# EAGLE library part S100_MALE (library s100)
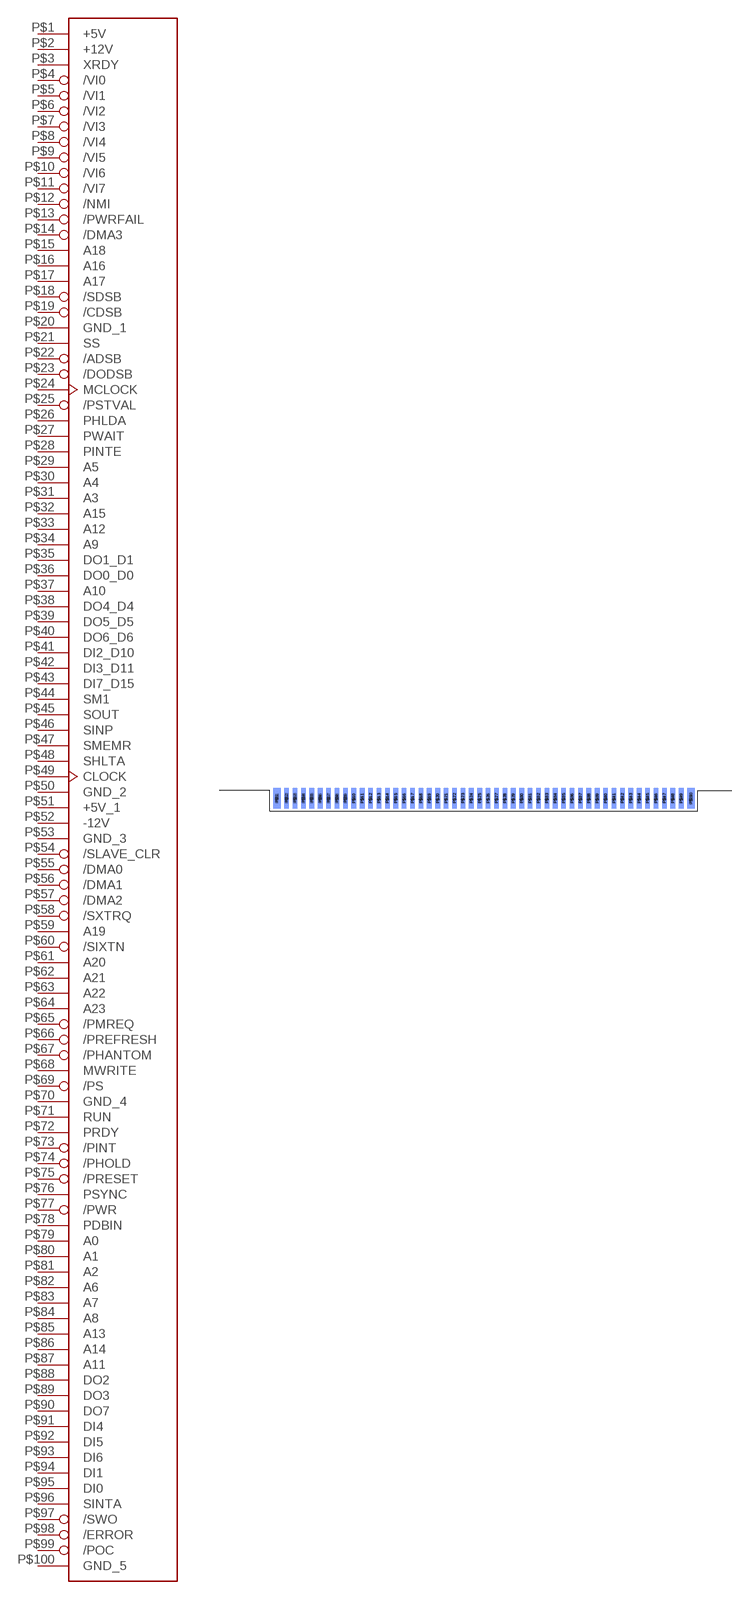
[diagram p0: symbol with the pads of S100_MALE; footprint S100_MALE]

Designator prefix -

## S100_MALE  [S100_MALE]
P$1  +5V  pwr
P$2  +12V  pwr
P$3  XRDY
P$4  /VI0
P$5  /VI1
P$6  /VI2
P$7  /VI3
P$8  /VI4
P$9  /VI5
P$10  /VI6
P$11  /VI7
P$12  /NMI
P$13  /PWRFAIL
P$14  /DMA3
P$15  A18
P$16  A16
P$17  A17
P$18  /SDSB
P$19  /CDSB
P$20  GND_1  pwr
P$21  SS
P$22  /ADSB
P$23  /DODSB
P$24  MCLOCK
P$25  /PSTVAL
P$26  PHLDA
P$27  PWAIT
P$28  PINTE
P$29  A5
P$30  A4
P$31  A3
P$32  A15
P$33  A12
P$34  A9
P$35  DO1_D1
P$36  DO0_D0
P$37  A10
P$38  DO4_D4
P$39  DO5_D5
P$40  DO6_D6
P$41  DI2_D10
P$42  DI3_D11
P$43  DI7_D15
P$44  SM1
P$45  SOUT
P$46  SINP
P$47  SMEMR
P$48  SHLTA
P$49  CLOCK
P$50  GND_2  pwr
P$51  +5V_1  pwr
P$52  -12V  pwr
P$53  GND_3  pwr
P$54  /SLAVE_CLR
P$55  /DMA0
P$56  /DMA1
P$57  /DMA2
P$58  /SXTRQ
P$59  A19
P$60  /SIXTN
P$61  A20
P$62  A21
P$63  A22
P$64  A23
P$65  /PMREQ
P$66  /PREFRESH
P$67  /PHANTOM
P$68  MWRITE
P$69  /PS
P$70  GND_4  pwr
P$71  RUN
P$72  PRDY
P$73  /PINT
P$74  /PHOLD
P$75  /PRESET
P$76  PSYNC
P$77  /PWR
P$78  PDBIN
P$79  A0
P$80  A1
P$81  A2
P$82  A6
P$83  A7
P$84  A8
P$85  A13
P$86  A14
P$87  A11
P$88  DO2
P$89  DO3
P$90  DO7
P$91  DI4
P$92  DI5
P$93  DI6
P$94  DI1
P$95  DI0
P$96  SINTA
P$97  /SWO
P$98  /ERROR
P$99  /POC
P$100  GND_5  pwr

## Footprint S100_MALE (pad centres in mm)
smd 2.794 x 7.62: P$1 -0.508,0; P$50 156.083,0
smd 1.778 x 7.62: P$2 3.175,0; P$3 6.35,0; P$4 9.525,0; P$5 12.7,0; P$6 15.875,0; P$7 19.05,0; P$8 22.225,0; P$9 25.4,0; P$10 28.575,0; P$11 31.75,0; P$12 34.925,0; P$13 38.1,0; P$14 41.275,0; P$15 44.45,0; P$16 47.625,0; P$17 50.8,0; P$18 53.975,0; P$19 57.15,0; P$20 60.325,0; P$21 63.5,0; P$22 66.675,0; P$23 69.85,0; P$24 73.025,0; P$25 76.2,0; P$26 79.375,0; P$27 82.55,0; P$28 85.725,0; P$29 88.9,0; P$30 92.075,0; P$31 95.25,0; P$32 98.425,0; P$33 101.6,0; P$34 104.775,0; P$35 107.95,0; P$36 111.125,0; P$37 114.3,0; P$38 117.475,0; P$39 120.65,0; P$40 123.825,0; P$41 127,0; P$42 130.175,0; P$43 133.35,0; P$44 136.525,0; P$45 139.7,0; P$46 142.875,0; P$47 146.05,0; P$48 149.225,0; P$49 152.4,0
smd 2.794 x 7.62 bottom: P$51 -0.508,0; P$100 156.083,0
smd 1.778 x 7.62 bottom: P$52 3.175,0; P$53 6.35,0; P$54 9.525,0; P$55 12.7,0; P$56 15.875,0; P$57 19.05,0; P$58 22.225,0; P$59 25.4,0; P$60 28.575,0; P$61 31.75,0; P$62 34.925,0; P$63 38.1,0; P$64 41.275,0; P$65 44.45,0; P$66 47.625,0; P$67 50.8,0; P$68 53.975,0; P$69 57.15,0; P$70 60.325,0; P$71 63.5,0; P$72 66.675,0; P$73 69.85,0; P$74 73.025,0; P$75 76.2,0; P$76 79.375,0; P$77 82.55,0; P$78 85.725,0; P$79 88.9,0; P$80 92.075,0; P$81 95.25,0; P$82 98.425,0; P$83 101.6,0; P$84 104.775,0; P$85 107.95,0; P$86 111.125,0; P$87 114.3,0; P$88 117.475,0; P$89 120.65,0; P$90 123.825,0; P$91 127,0; P$92 130.175,0; P$93 133.35,0; P$94 136.525,0; P$95 139.7,0; P$96 142.875,0; P$97 146.05,0; P$98 149.225,0; P$99 152.4,0